# EAGLE library part STM32F051C (library ELL-i-DigitalIC)
STM32F051 in LQPF48 package. STM32F0-series Cortex-M0 microcontroller in a 48 lead package. Datasheet <http://www.st.com/web/en/resource/technical/document/datasheet/DM00039193.pdf> (DM00039193.pdf) .
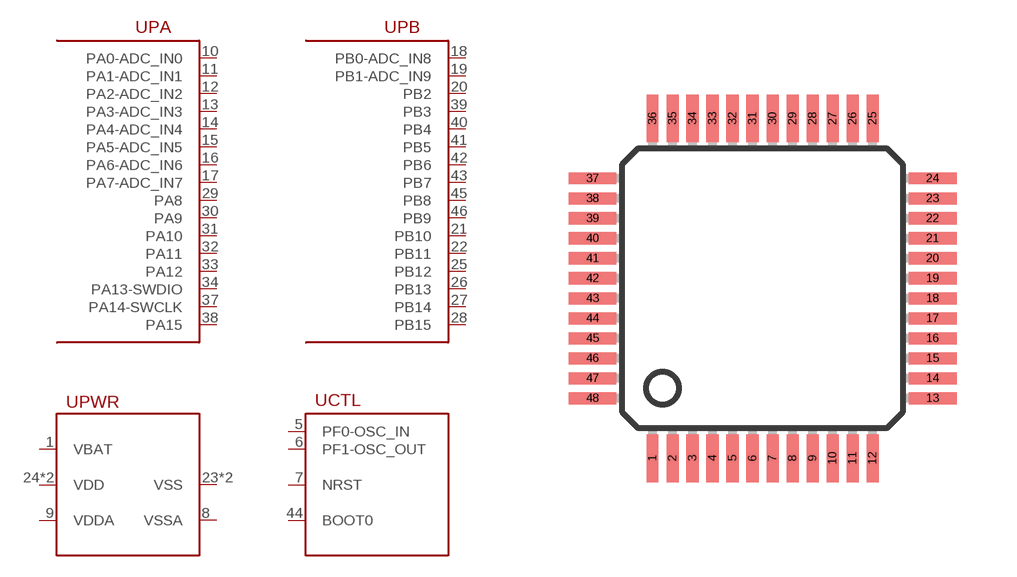
[diagram p3: symbol with the pads of LQFP48; footprint LQFP48]

Designator prefix U; gates PA=STM32-PA PB=STM32-PB PWR=STM32FXXX-PWR CTL=STM32F0XX-CTL

## STM32F051C4T (FLASH: 16), STM32F051C6T (FLASH: 32), STM32F051C8T (FLASH: 64)  [LQFP48]
1  PWR:VBAT  pwr
5  CTL:PF0-OSC_IN
6  CTL:PF1-OSC_OUT
7  CTL:NRST
8  PWR:VSSA  pwr
9  PWR:VDDA  pwr
10  PA:PA0-ADC_IN0
11  PA:PA1-ADC_IN1
12  PA:PA2-ADC_IN2
13  PA:PA3-ADC_IN3
14  PA:PA4-ADC_IN4
15  PA:PA5-ADC_IN5
16  PA:PA6-ADC_IN6
17  PA:PA7-ADC_IN7
18  PB:PB0-ADC_IN8
19  PB:PB1-ADC_IN9
20  PB:PB2
21  PB:PB10
22  PB:PB11
23  PWR:VSS  pwr
24  PWR:VDD  pwr
25  PB:PB12
26  PB:PB13
27  PB:PB14
28  PB:PB15
29  PA:PA8
30  PA:PA9
31  PA:PA10
32  PA:PA11
33  PA:PA12
34  PA:PA13-SWDIO
37  PA:PA14-SWCLK
38  PA:PA15
39  PB:PB3
40  PB:PB4
41  PB:PB5
42  PB:PB6
43  PB:PB7
44  CTL:BOOT0
45  PB:PB8
46  PB:PB9
47  PWR:VSS  pwr
48  PWR:VDD  pwr

## Footprint LQFP48 (pad centres in mm)
48 leads Low Profile Quad Flat Package (LQFP) 7x7 mm, 0.5 mm pitch. Wikipedia article on QFPs <https://en.wikipedia.org/wiki/LQFP>
smd 0.3 x 1.2: 1 -2.75,-4.25; 2 -2.25,-4.25; 3 -1.75,-4.25; 4 -1.25,-4.25; 5 -0.75,-4.25; 6 -0.25,-4.25; 7 0.25,-4.25; 8 0.75,-4.25; 9 1.25,-4.25; 10 1.75,-4.25; 11 2.25,-4.25; 12 2.75,-4.25; 25 2.75,4.25; 26 2.25,4.25; 27 1.75,4.25; 28 1.25,4.25; 29 0.75,4.25; 30 0.25,4.25; 31 -0.25,4.25; 32 -0.75,4.25; 33 -1.25,4.25; 34 -1.75,4.25; 35 -2.25,4.25; 36 -2.75,4.25
smd 1.2 x 0.3: 13 4.25,-2.75; 14 4.25,-2.25; 15 4.25,-1.75; 16 4.25,-1.25; 17 4.25,-0.75; 18 4.25,-0.25; 19 4.25,0.25; 20 4.25,0.75; 21 4.25,1.25; 22 4.25,1.75; 23 4.25,2.25; 24 4.25,2.75; 37 -4.25,2.75; 38 -4.25,2.25; 39 -4.25,1.75; 40 -4.25,1.25; 41 -4.25,0.75; 42 -4.25,0.25; 43 -4.25,-0.25; 44 -4.25,-0.75; 45 -4.25,-1.25; 46 -4.25,-1.75; 47 -4.25,-2.25; 48 -4.25,-2.75